# Altium footprint library CAP_WSKJ.PcbLib: 20 footprints (part 1 of 2)
Each footprint in its own frame and in the unit in brackets; x right, y up, seen from the top. Pads: shape width x height; smd on the part's side, far side on the other; paste and mask are expansions set on the pad; w line width, h text height; cw(c..) or ccw(c..) is an arc to the next point about the centre after c.
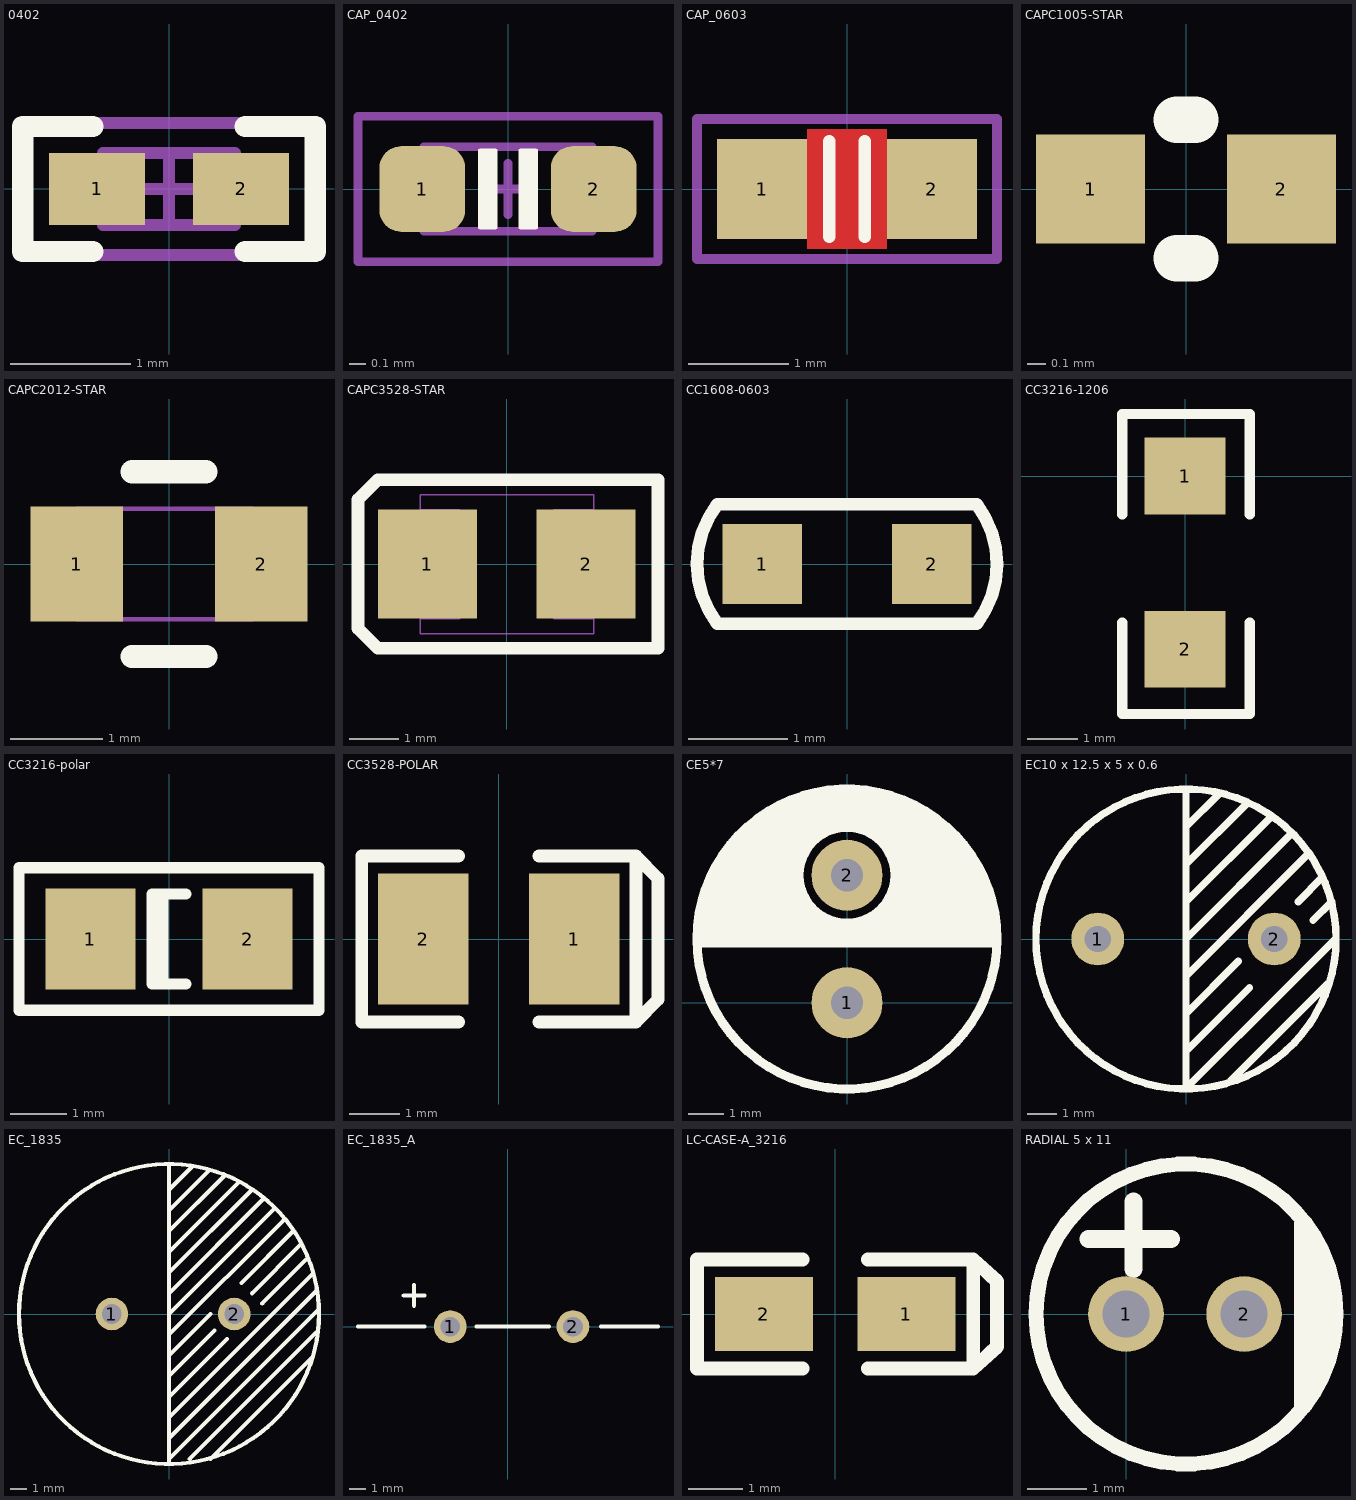
[diagram p0: the footprints below, top view; thin cyan lines are the x and y axes]

## 0402 [mm] "0402 from SM-752 data"
height 0.6
pads (2):
  rect 0.8x0.6 smd: 1(-0.6,0) 2(0.6,0)
Top Overlay:
  lines w0.178: -0.635,-0.521 -1.219,-0.521 -1.219,0.521 -0.635,0.521 ; 0.635,-0.521 1.219,-0.521 1.219,0.521 0.635,0.521
Mechanical 5:
  lines w0.1: -1.25,-0.55 1.25,-0.55 1.25,0.55 -1.25,0.55 -1.25,-0.55
Mechanical 13:
  lines w0.1: -0.35,-0.3 -0.35,0.3 ; 0.35,-0.3 0.35,0.3 ; -0.55,-0.3 -0.55,0.3 0.55,0.3 0.55,-0.3 -0.55,-0.3
Mechanical 15:
  lines w0.1: -0.3,0 0.3,0 ; 0,-0.3 0,0.3 ; -1.25,-0.55 -1.25,0.55 1.25,0.55 1.25,-0.55 -1.25,-0.55
3D body: height 0.6, standoff 0, extent -0.549,-0.299 -0.351,0.299
3D body: height 0.6, standoff 0, extent -0.349,-0.299 0.349,0.299
3D body: height 0.6, standoff 0, extent 0.351,-0.299 0.549,0.299

## CAP_0402 [mil]
pads (2):
  rrect50% 20x20 smd: 1(-20,0) 2(20,0)
Top Overlay:
  region: -6.5,9 -3,9 -3,-9 -6.5,-9
  region: 6.5,-9 3,-9 3,9 6.5,9
  lines w1: -6.5,-9 -3,-9 -3,9 -6.5,9 -6.5,-9 ; 3,-9 3,9 6.5,9 6.5,-9 3,-9
Mechanical 13:
  lines w2: -6,0 6,0 ; 0,-6 0,6 ; -19.69,-9.84 -19.69,9.84 19.68,9.84 19.68,-9.84 -19.69,-9.84
Mechanical 14:
  lines w2: -35,-17 -35,17 35,17 35,-17 -35,-17
3D body "CAPC1005X05L.step": height 19.68, standoff 0, extent -19.68,-9.84 19.69,9.85

## CAP_0603 [mm] "Chip Capacitor, Body 1.6x0.8mm, 0603, IPC Medium Density"
height 0.8
pads (2):
  rect 0.9x1 smd: 1(-0.85,0) 2(0.85,0)
Top Layer:
  pour cut-out: -0.4,0.6 0.4,0.6 0.4,-0.6 -0.4,-0.6
Top Overlay:
  lines w0.127: -0.178,-0.476 -0.178,0.476 ; 0.178,-0.476 0.178,0.476
Mechanical 13:
  lines w0.05: -0.55,-0.43 0.55,-0.43 ; -0.55,0.43 0.55,0.43 ; -0.85,-0.45 -0.85,0.45 -0.55,0.45 -0.55,-0.45 -0.85,-0.45 ; 0.55,-0.45 0.55,0.45 0.85,0.45 0.85,-0.45 0.55,-0.45
Mechanical 14:
  lines w0.1: -1.5,-0.7 -1.5,0.7 1.5,0.7 1.5,-0.7 -1.5,-0.7
3D body "CAP_0603.STEP": height 0.89, standoff -0.01, extent -0.85,-0.45 0.85,0.45

## CAPC1005-STAR [mm]
pads (2):
  rect 0.6x0.6 smd: 1(-0.525,0) 2(0.525,0)
Top Overlay:
  lines w0.254: -0.051,-0.381 0.051,-0.381 ; -0.051,0.381 0.051,0.381
3D body: height 0.2, standoff 0, extent -0.571,-0.301 -0.228,0.299
3D body: height 0.2, standoff 0, extent 0.23,-0.3 0.573,0.3
3D body: height 0.2, standoff 0, extent -0.233,-0.299 0.236,0.301

## CAPC2012-STAR [mm]
pads (2):
  rect 1x1.25 smd: 1(-1,0) 2(1,0)
Top Overlay:
  lines w0.25: -0.4,-1 0.4,-1
  lines w0.254: -0.4,1 0.4,1
Mechanical 7:
  lines w0.05: -1,-0.6 0.9,-0.6 0.9,0.6 -1,0.6 -1,-0.6
3D body "CAPC2012(0805).STEP": height 0.95, standoff 0, extent -1,-0.6 1,0.6

## CAPC3528-STAR [mm]
pads (2):
  rect 2x2.2 smd: 1(-1.6,0) 2(1.6,0)
Top Overlay:
  lines w0.254: -3,-1.3 -2.6,-1.7 3.05,-1.7 3.05,1.7 -2.6,1.7 -3,1.3 -3,-1.3
Mechanical 7:
  lines w0.025: -1.748,-1.104 -0.948,-1.104 -0.948,1.096 -1.748,1.096 ; 1.752,-1.104 0.952,-1.104 0.952,1.096 1.752,1.096 ; -1.748,-1.404 1.752,-1.404 1.752,1.396 -1.748,1.396 -1.748,-1.404
3D body: height 1, standoff 0, extent -1.704,-1.539 1.763,1.537
3D body: height 0.3, standoff 0, extent 1.578,-0.658 1.803,0.768
3D body: height 0.3, standoff 0, extent -1.793,-0.665 -1.568,0.824

## CC1608-0603 [mm]
height 2.54
pads (2):
  rect 0.8x0.8 smd: 1(-0.85,0) 2(0.85,0)
Top Overlay:
  lines w0.127: -1.3,0.6 1.3,0.6 cw(c0.525,0) 1.299,-0.601 ; -1.299,0.601 ccw(c-0.525,0) -1.3,-0.599 1.3,-0.6
3D body "Capacitor 0603 SMD.step": height 0.89, standoff -0.01, extent -1.287,-0.467 1.313,0.533

## CC3216-1206 [mil]
pads (2):
  rect 62.99x60 smd: 1(0,0) 2(0,-135)
Top Overlay:
  lines w7.87: -49,-114 -49,-185.5 50.5,-185.5 50.5,-114 ; -49,-30 -49,48.5 50.5,48.5 50.5,-30
3D body "1206(3216M).STEP": height 60.1, standoff 0, extent -31.5,-153.74 31.5,3.76

## CC3216-polar [mm]
pads (2):
  rect 1.6x1.8 smd: 1(-1.4,0) 2(1.4,0)
Top Overlay:
  lines w0.2: -0.11,-0.8 -0.11,0.8 ; 0.3,-0.8 -0.3,-0.8 -0.3,0.8 0.3,0.8
  lines w0.203: -2.667,-1.27 -2.667,1.27 2.667,1.27 2.667,-1.27 -2.667,-1.27
3D body "User Library-AVX_ACASE.STEP": height 1.71, standoff 0, extent -1.7,-0.84 1.7,0.84

## CC3528-POLAR [mm]
pads (2):
  rect 1.8x2.6 smd: 1(1.5,0) 2(-1.5,0)
Top Overlay:
  lines w0.254: -0.8,-1.65 -2.727,-1.65 -2.727,1.65 -0.8,1.65 ; 0.8,-1.65 2.727,-1.65 ; 0.8,1.65 2.727,1.65 ; 2.727,-1.65 3.163,-1.2 3.163,1.2 2.727,1.65 ; 2.727,-1.65 2.727,1.65
3D body "User Library-AVX_BCASE.STEP": height 2.03, standoff 0, extent -1.85,-1.465 1.85,1.465

## CE5*7 [mil]
pads (2):
  round 78 hole 35.43 mask+1: 1(0,0) 2(0,140)
Top Overlay:
  circle w10: c0,140 r52.58
  circle w10: c0,70 r164.62
  lines w10: -163,65.5 161,65.5
  lines w15: -160,84.5 -53,84.5 ; -156.5,75 -25,75 ; -154,88.5 -154,108.5 -149,113.5 -149,126.5 -138,137.5 -138,145.5 ; -141.5,111 -141.5,89 -139.5,87 -139.5,132.5 ; -129.5,81 -129.5,155.5 -69,216 -52.5,216 -45.5,223 23,223 26,220 58,220 72,206 83.5,206 122.5,167 122.5,160 142,140.5 142,125 153.5,113.5 153.5,94.5 154,94 49,94 67,112 67,173 27.5,212.5 -25.5,212.5 -69.5,168.5 -69.5,107 -47,84.5 -35,84.5 ; -116,87 -116,176 -89,203 ; -92.5,89 -92.5,163.5 -50.5,205.5 -49,205.5 -80,174.5 -80,104.5 -69.5,94 -101.5,94 -104,91.5 -104,168 -58.5,213.5 -30.5,213.5 ; -75.5,75 157.5,75 ; -13,81.5 -26,81.5 -57.5,113 -57.5,167 -25,199.5 24,199.5 57.5,166 57.5,114.5 31.5,88.5 31,88.5 156.5,88.5 156.5,82 -4.5,82 ; 34,211.5 64,211.5 145.5,130 145.5,107 145,106.5 74,106.5 69,101.5 65.5,101.5 ; 77,109.5 77,175.5 51,201.5 61.5,201.5 135,128 135,116.5 134,117.5 85,117.5 87,119.5 87,164.5 127.5,124 99,124 95.5,127.5 95.5,146 109,132.5 109,124

## EC10 x 12.5 x 5 x 0.6 [mm] "M Series_10 x 12.5 x 5 x 0.6"
pads (2):
  round 1.8 hole 0.9: 1(-3,0) 2(3,0)
Top Overlay:
  circle w0.254: c0,0 r5.1
  lines w0.254: 0,-3.81 2.159,-1.651 ; 0,-2.54 1.778,-0.762 ; 0,-1.27 4.127,2.857 ; 0,0 3.556,3.556 ; 0,1.27 2.857,4.127 ; 0,2.54 2.095,4.635 ; 0,3.81 1.143,4.953 ; 0,5.08 0,-5.08 3.556,-1.524 5.09,0.01 ; 1.524,-4.826 4.826,-1.524 ; 3.81,1.27 4.635,2.095 ; 4.318,0.635 4.953,1.27
3D body: height 12.5, standoff 0, extent -4.96,-4.99 5,4.99

## EC_1835 [mm]
pads (2):
  round 2 hole 1.2: 1(-3.5,0) 2(4,0)
Top Overlay:
  circle w0.254: c0,0 r9.2
  lines w0.254: 0,-9.144 0,9.144 ; 0,-8.89 9.144,0.254 ; 0,-7.62 9.017,1.397 ; 0,-6.35 8.763,2.413 ; 0,-5.08 3.556,-1.524 ; 0,-3.81 2.794,-1.016 ; 0,-2.54 2.54,0 ; 0,-1.27 6.985,5.715 ; 0,0 6.477,6.477 ; 0,1.27 5.842,7.112 ; 0,2.54 5.08,7.62 ; 0,3.81 4.191,8.001 ; 0,5.08 3.429,8.509 ; 0,6.35 2.413,8.763 ; 0,7.62 1.397,9.017 ; 1.27,-8.89 9.017,-1.143 ; 2.54,-8.89 8.763,-2.667 ; 4.445,1.905 7.62,5.08 ; 5.08,1.27 8.128,4.318 ; 5.715,0.635 8.382,3.302

## EC_1835_A [mm]
pads (2):
  round 2 hole 1.2: 1(-3.5,0) 2(4,0)
Top Overlay:
  lines w0.254: -9.144,0 -5.08,0 ; -6.35,1.905 -5.08,1.905 ; -5.715,1.27 -5.715,2.54 ; -1.905,0 2.54,0 ; 5.715,0 9.2,0

## LC-CASE-A_3216 [mm]
pads (2):
  rect 1.8x1.35 smd: 1(1.31,0) 2(-1.31,0)
Top Overlay:
  lines w0.254: -0.6,-1.002 -2.537,-1.002 -2.537,1.002 -0.6,1.002 ; 0.6,-1.002 2.537,-1.002 ; 0.6,1.002 2.537,1.002 ; 2.537,-1.002 2.973,-0.6 2.973,0.6 2.537,1.002 ; 2.537,-1.002 2.537,1.002
3D body "User Library-AVX_ACASE.STEP": height 1.71, standoff 0, extent -1.7,-0.84 1.7,0.84

## RADIAL 5 x 11 [mm]
pads (2):
  round 1.28 hole 0.8 mask+0.025: 1(0,0) 2(2,0)
Top Overlay:
  circle w0.254: c1.016,0 r2.54
  lines w0.3: -0.635,1.27 0.762,1.27 ; 0.127,0.762 0.127,1.905 ; 2.997,-1.549 2.997,1.524 ; 3.175,-1.143 3.175,1.194 ; 3.353,-0.889 3.353,0.787